# Altium footprint library CameraBoard.PcbLib: 41 footprints (part 3 of 3)
Each footprint in its own frame and in the unit in brackets; x right, y up, seen from the top. Pads: shape width x height; smd on the part's side, far side on the other; paste and mask are expansions set on the pad; w line width, h text height; cw(c..) or ccw(c..) is an arc to the next point about the centre after c.
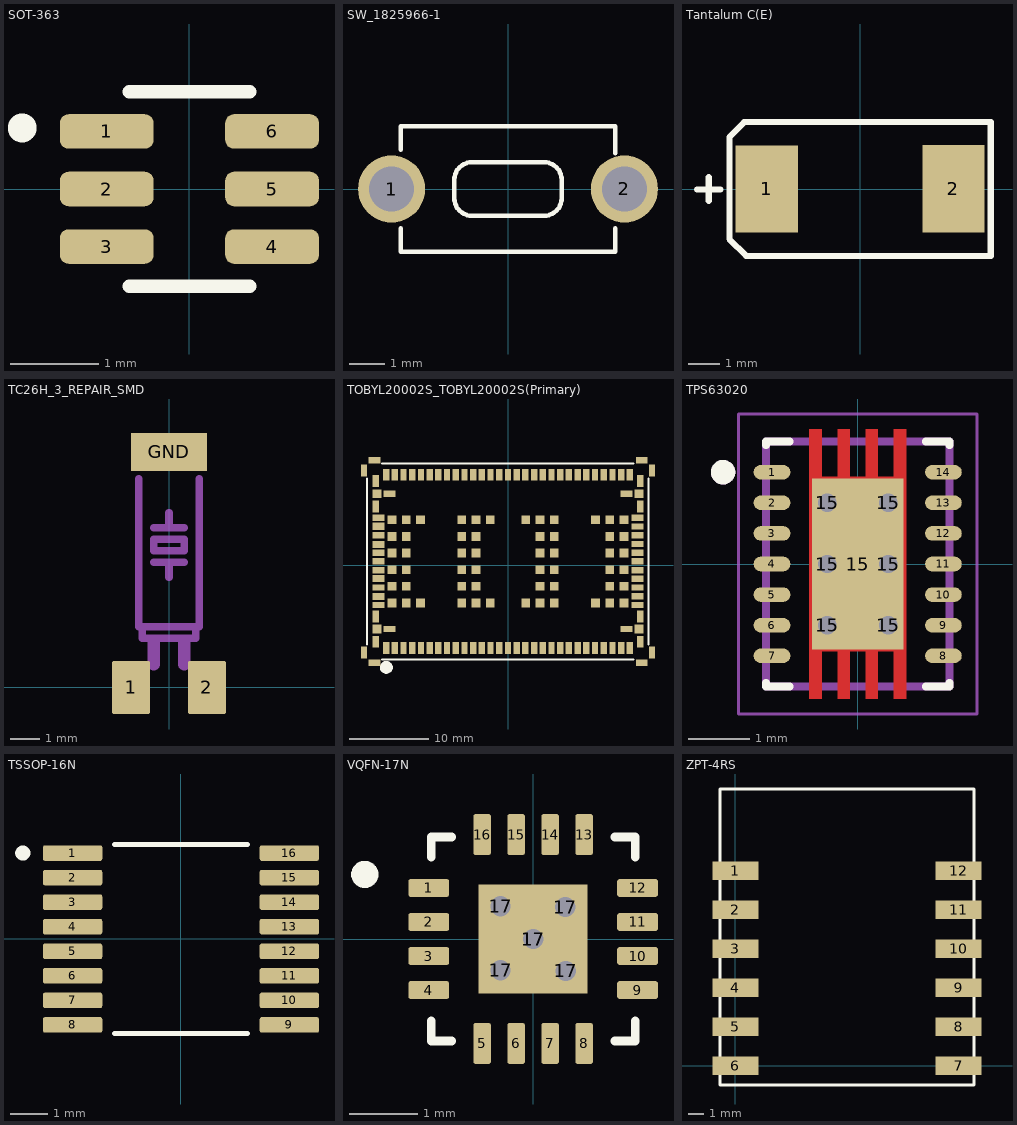
[diagram p2: the footprints below, top view; thin cyan lines are the x and y axes]

## SOT-363 [mm]
pads (6):
  rrect50% 1.06x0.39 smd: 1(-0.935,0.65) 2(-0.935,0) 3(-0.935,-0.65) 4(0.935,-0.65) 5(0.935,0) 6(0.935,0.65)
Top Overlay:
  circle w0.254: c-1.89,0.69 r0.036
  lines w0.152: -0.68,-1.1 0.68,-1.1 ; -0.68,1.1 0.68,1.1

## SW_1825966-1 [mm]
pads (2):
  round 1.875 hole 1.25: 1(-3.25,0) 2(3.25,0)
Top Overlay:
  lines w0.127: -3,-1.1 -3,-1.75 3,-1.75 3,-1.1 ; -3,1.1 -3,1.75 3,1.75 3,1 ; -1.5,-0.25 ccw(c-1,-0.25) -1,-0.75 1,-0.75 ccw(c1,-0.25) 1.5,-0.25 1.5,0.25 ccw(c1,0.25) 1,0.75 -1,0.75 ccw(c-1,0.25) -1.5,0.25 -1.5,-0.25

## Tantalum C(E) [mm] "Tantalum C(E)"
height 1.3
pads (2):
  rect 2x2.8 smd: 1(-3,0) 2(3,0.01)
Top Overlay:
  lines w0.2: -5.24,-0.02 -4.49,-0.02 ; -4.86,-0.375 -4.86,0.375 ; -4.2,-1.61 -3.66,-2.15 4.2,-2.15 4.2,2.15 -3.72,2.15 -4.2,1.67 -4.2,-1.61

## TC26H_3_REPAIR_SMD [mil] "TC26H_3_REPAIR_SMD"
pads (3):
  rrect10% 50x70 smd paste-35: 1(-50,0) 2(50,0)
  rect 100x50 smd paste-50: GND(0,310)
Mechanical 2:
  rectangle: -28.02,40 -12.02,63
  rectangle: 12.01,40 28.01,63
  lines w10: -40,275 -40,80 -35,80 ; -20,165 0,165 ; -20,210 0,210 ; 0,145 0,165 ; 0,230 0,210 ; 20,165 0,165 ; 20,210 0,210 ; 40,275 40,80 35,80 ; -35,80 35,80 ; -35,80 -35,65 35,65 35,80 ; -20,180 20,180 20,195 -20,195 -20,180
  lines w16: -20,30 -20,50 ; 20,30 20,45
3D body "User Library-MS2V-T1S.STEP": height 54.53, standoff -4.53, extent -29.53,10 29.53,293.47

## TOBYL20002S_TOBYL20002S(Primary) [mil]
pads (160):
  rect 31.5x59.1 smd: 1(-606.28,-411.27) 2(-562.98,-411.27) 3(-519.68,-411.27) 4(-476.38,-411.27) 5(-433.08,-411.27) 6(-389.78,-411.27) 7(-346.48,-411.27) 8(-303.18,-411.27) 9(-259.88,-411.27) 10(-216.58,-411.27) 11(-173.28,-411.27) 12(-129.98,-411.27) 13(-86.68,-411.27) 14(-43.38,-411.27) 15(-0.08,-411.27) 16(43.22,-411.27) 17(86.52,-411.27) 18(129.82,-411.27) 19(173.12,-411.27) 20(216.42,-411.27) 21(259.72,-411.27) 22(303.02,-411.27) 23(346.32,-411.27) 24(389.62,-411.27) 25(432.92,-411.27) 26(476.22,-411.27) 27(519.52,-411.27) 28(562.82,-411.27) 29(606.12,-411.27) 30(657.53,-379.76) 32(657.53,-253.71) 44(657.53,293.33) 46(657.53,419.38) 47(606.12,450.93) 48(562.82,450.93) 49(519.52,450.93) 50(476.22,450.93) 51(432.92,450.93) 52(389.62,450.93) 53(346.32,450.93) 54(303.02,450.93) 55(259.72,450.93) 56(216.42,450.93) 57(173.12,450.93) 58(129.82,450.93) 59(86.52,450.93) 60(43.22,450.93) 61(-0.08,450.93) 62(-43.38,450.93) 63(-86.68,450.93) 64(-129.98,450.93) 65(-173.28,450.93) 66(-216.58,450.93) 67(-259.88,450.93) 68(-303.18,450.93) 69(-346.48,450.93) 70(-389.78,450.93) 71(-433.08,450.93) 72(-476.38,450.93) 73(-519.68,450.93) 74(-562.98,450.93) 75(-606.28,450.93) 76(-657.43,419.38) 78(-657.43,293.33) 90(-657.43,-253.71) 92(-657.43,-379.76) R3(716.6,-432.52) R4(716.6,472.17) R7(-716.47,472.17) R8(-716.6,-432.79)
  rect 43.3x43.3 smd: 31(651.58,-316.74) 45(651.58,356.36) 77(-651.57,356.36) 91(-651.57,-316.74) 94(-576.93,-186.93) 95(-576.93,-104.23) 96(-576.93,-21.53) 97(-576.93,61.17) 98(-576.93,143.87) 99(-576.93,226.57) 101(-506.04,-186.93) 102(-506.04,-104.23) 103(-506.04,-21.53) 104(-506.04,61.17) 105(-506.04,143.87) 106(-506.04,226.57) 107(-435.13,-186.93) 108(-435.13,226.57) 109(-230.48,-186.93) 110(-230.48,-104.23) 111(-230.48,-21.53) 112(-230.48,61.17) 113(-230.48,143.87) 114(-230.48,226.57) 115(-159.58,-186.93) 116(-159.58,-104.23) 117(-159.58,-21.53) 118(-159.58,61.17) 119(-159.58,143.87) 120(-159.58,226.57) 121(-88.68,-186.93) 122(-88.68,226.57) 123(88.52,-186.93) 124(88.52,226.57) 125(159.42,-186.93) 126(159.42,-104.23) 127(159.42,-21.53) 128(159.42,61.17) 129(159.42,143.87) 130(159.42,226.57) 131(230.32,-186.93) 132(230.32,-104.23) 133(230.32,-21.53) 134(230.32,61.17) 135(230.32,143.87) 136(230.32,226.57) 137(434.97,-186.93) 138(434.97,226.57) 139(505.87,-186.93) 140(505.87,-104.23) 141(505.87,-21.53) 142(505.87,61.17) 143(505.87,143.87) 144(505.87,226.57) 146(576.78,-186.93) 147(576.78,-104.23) 148(576.78,-21.53) 149(576.78,61.17) 150(576.78,143.87) 151(576.78,226.57)
  rect 59.1x31.5 smd: 33(643.9,-196.67) 34(643.9,-153.37) 35(643.9,-110.07) 36(643.9,-66.77) 37(643.9,-23.47) 38(643.9,19.83) 39(643.9,63.13) 40(643.9,106.43) 41(643.9,149.73) 42(643.9,193.03) 43(643.9,236.33) 79(-643.68,236.24) 81(-643.68,149.62) 83(-644.08,63.13) 84(-644.08,19.83) 85(-644.08,-23.47) 87(-643.68,-110.35) 89(-643.68,-196.96) 93(-588.57,-316.74) 100(-588.57,356.36) 145(588.58,-316.74) 152(588.58,356.36) R1(-664.94,-484.05) R2(665.07,-484.05) R5(665.07,523.69) R6(-664.81,523.69)
  rect 59.1x35.4 smd: 80(-643.68,194.9) 82(-643.68,104.34) 86(-643.68,-65.07) 88(-643.68,-155.63)
Top Overlay:
  region: -574.02,-507.67 -574.49,-502.15 -575.89,-496.8 -578.18,-491.78 -581.3,-487.25 -585.13,-483.33 -589.58,-480.15 -594.5,-477.81 -599.74,-476.38 -605.14,-475.9 -610.55,-476.38 -615.79,-477.81 -620.7,-480.15 -625.15,-483.33 -628.98,-487.25 -632.1,-491.78 -634.39,-496.8 -635.8,-502.15 -636.27,-507.67 -635.8,-513.19 -634.39,-518.54 -632.1,-523.56 -628.98,-528.09 -625.15,-532.01 -620.7,-535.18 -615.79,-537.53 -610.55,-538.96 -605.14,-539.44 -599.74,-538.96 -594.5,-537.53 -589.58,-535.18 -585.13,-532.01 -581.3,-528.09 -578.18,-523.56 -575.89,-518.54 -574.49,-513.19
  lines w10: -700.71,-393.36 -700.71,431.66 ; -625.72,-468.34 624.26,-468.34 ; -625.72,506.65 624.26,506.65 ; 699.25,-393.36 699.25,431.66

## TPS63020 [mm]
pads (21):
  oval 0.6x0.24 smd mask+0: 1(-1.4,1.5) 2(-1.4,1) 3(-1.4,0.5) 4(-1.4,0) 5(-1.4,-0.5) 6(-1.4,-1) 7(-1.4,-1.5) 8(1.4,-1.5) 9(1.4,-1) 10(1.4,-0.5) 11(1.4,0) 12(1.4,0.5) 13(1.4,1) 14(1.4,1.5)
  round 0.5 hole 0.3: 15(-0.5,-1) 15(-0.5,0) 15(-0.5,1) 15(0.5,-1) 15(0.5,0) 15(0.5,1)
  rect 1.5x2.8 smd paste-2 mask+0: 15(0,0)
Top Layer:
  region: 0.79,-2.2 0.59,-2.2 0.59,-1.425 0.33,-1.425 0.33,-2.2 0.13,-2.2 0.13,-1.425 -0.13,-1.425 -0.13,-2.2 -0.33,-2.2 -0.33,-1.425 -0.59,-1.425 -0.59,-2.2 -0.79,-2.2 -0.79,2.2 -0.59,2.2 -0.59,1.425 -0.33,1.425 -0.33,2.2 -0.13,2.2 -0.13,1.425 0.13,1.425 0.13,2.2 0.33,2.2 0.33,1.425 0.59,1.425 0.59,2.2 0.79,2.2
Top Overlay:
  circle w0.2: c-2.2,1.5 r0.1
  lines w0.127: -1.5,-1.94 -1.5,-2 -1.11,-2 ; -1.5,1.94 -1.5,2 -1.11,2 ; 1.11,-2 1.5,-2 1.5,-1.94 ; 1.11,2 1.5,2 1.5,1.94
Top Paste:
  region: -0.13,0.1 -0.79,0.1 -0.79,2.2 -0.59,2.2 -0.59,1.35 -0.33,1.35 -0.33,2.2 -0.13,2.2
  region: 0.79,0.1 0.13,0.1 0.13,2.2 0.33,2.2 0.33,1.35 0.59,1.35 0.59,2.2 0.79,2.2
  region: 0.79,-2.2 0.59,-2.2 0.59,-1.35 0.33,-1.35 0.33,-2.2 0.13,-2.2 0.13,-0.1 0.79,-0.1
  region: -0.13,-2.2 -0.33,-2.2 -0.33,-1.35 -0.59,-1.35 -0.59,-2.2 -0.79,-2.2 -0.79,-0.1 -0.13,-0.1
Top Solder:
  drawing of 15 lines, arcs and shapes, not listed
Mechanical 13:
  circle w0.2: c-2.2,1.5 r0.1
  lines w0.127: -1.5,-2 1.5,-2 1.5,2 -1.5,2 -1.5,-2
Mechanical 15:
  lines w0.05: -1.95,-2.45 1.95,-2.45 1.95,2.45 -1.95,2.45 -1.95,-2.45

## TSSOP-16N [mm]
pads (16):
  rrect25% 1.57x0.41 smd: 1(-2.87,2.275) 2(-2.87,1.625) 3(-2.87,0.975) 4(-2.87,0.325) 5(-2.87,-0.325) 6(-2.87,-0.975) 7(-2.87,-1.625) 8(-2.87,-2.275) 9(2.87,-2.275) 10(2.87,-1.625) 11(2.87,-0.975) 12(2.87,-0.325) 13(2.87,0.325) 14(2.87,0.975) 15(2.87,1.625) 16(2.87,2.275)
Top Overlay:
  circle w0.2: c-4.19,2.275 r0.1
  lines w0.127: -1.765,-2.5 1.765,-2.5 ; -1.765,2.5 1.765,2.5

## VQFN-17N [mm]
pads (22):
  rrect25% 0.6x0.26 smd: 1(-1.535,0.75) 2(-1.535,0.25) 3(-1.535,-0.25) 4(-1.535,-0.75) 9(1.535,-0.75) 10(1.535,-0.25) 11(1.535,0.25) 12(1.535,0.75)
  rrect25% 0.26x0.6 smd: 5(-0.75,-1.535) 6(-0.25,-1.535) 7(0.25,-1.535) 8(0.75,-1.535) 13(0.75,1.535) 14(0.25,1.535) 15(-0.25,1.535) 16(-0.75,1.535)
  round 0.6 hole 0.3 mask+0: 17(-0.48,-0.46) 17(-0.48,0.48) 17(0,0) 17(0.47,0.47) 17(0.48,-0.47)
  rect 1.6x1.6 smd paste-2: 17(0,0)
Top Overlay:
  circle w0.2: c-2.475,0.95 r0.1
  lines w0.127: -1.5,-1.2 -1.5,-1.5 -1.2,-1.5 ; -1.5,1.2 -1.5,1.5 -1.2,1.5 ; 1.2,-1.5 1.5,-1.5 1.5,-1.2 ; 1.2,1.5 1.5,1.5 1.5,1.2
Top Paste:
  region: 0.53,-0.53 -0.53,-0.53 -0.53,0.53 0.53,0.53
3D body "step_temp.STEP": height 1, standoff 0, extent -1.5,-1.5 1.5,1.5

## ZPT-4RS [mm]
pads (12):
  rect 3x1.2 smd: 1(0,12.7) 2(0,10.16) 3(0,7.62) 4(0,5.08) 5(0,2.54) 6(0,0) 7(14.5,0) 8(14.5,2.54) 9(14.5,5.08) 10(14.5,7.62) 11(14.5,10.16) 12(14.5,12.7)
Top Overlay:
  lines w0.2: -1,-1.25 -1,18 15.5,18 15.5,-1.25 -1,-1.25